# Altium footprint library AtaPcbLib.PcbLib: 50 footprints (part 4 of 4)
Each footprint in its own frame and in the unit in brackets; x right, y up, seen from the top. Pads: shape width x height; smd on the part's side, far side on the other; paste and mask are expansions set on the pad; w line width, h text height; cw(c..) or ccw(c..) is an arc to the next point about the centre after c.
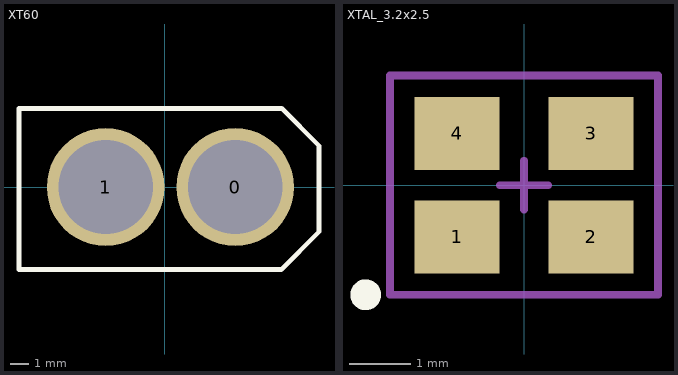
[diagram p3: the footprints below, top view; thin cyan lines are the x and y axes]

## XT60 [mm] "XT60 Standart Connector Footprint"
pads (2):
  round 6.35 hole 5.08 paste-2539.97: 0(3.81,0) 1(-3.175,0)
Top Overlay:
  lines w0.254: -7.849,-4.445 -7.849,4.242 6.325,4.242 8.331,2.235 8.331,-2.413 6.299,-4.445 -7.849,-4.445
3D body "XT60-M.step": height 15.19, standoff -5.31, extent -7.515,-4.175 7.985,3.925

## XTAL_3.2x2.5 [mm] "Standart 3.2x2.5mm crystal oscillator footprint"
pads (4):
  rect 1.4x1.2 smd mask+0.04: 1(-1.1,-0.85) 2(1.1,-0.85) 3(1.1,0.85) 4(-1.1,0.85)
Top Overlay:
  circle w0.254: c-2.6,-1.8 r0.126
Mechanical 15:
  lines w0.127: 0,-0.4 0,0 ; 0,0 0.4,0 0,0 ; 0,0 0,0.4 0,0 ; 0,0 -0.4,0 0,0 ; -2.2,-1.8 -2.2,1 -2.2,1.8 2.2,1.8 2.2,1.2 2.2,-1.8 -2,-1.8 -2.2,-1.8
3D body "LFXTAL085871.stp": height 0.82, standoff 0.02, extent -1.7,-1.35 1.7,1.35